# EAGLE library part SIMII80 (library con-amp)
AMP connector
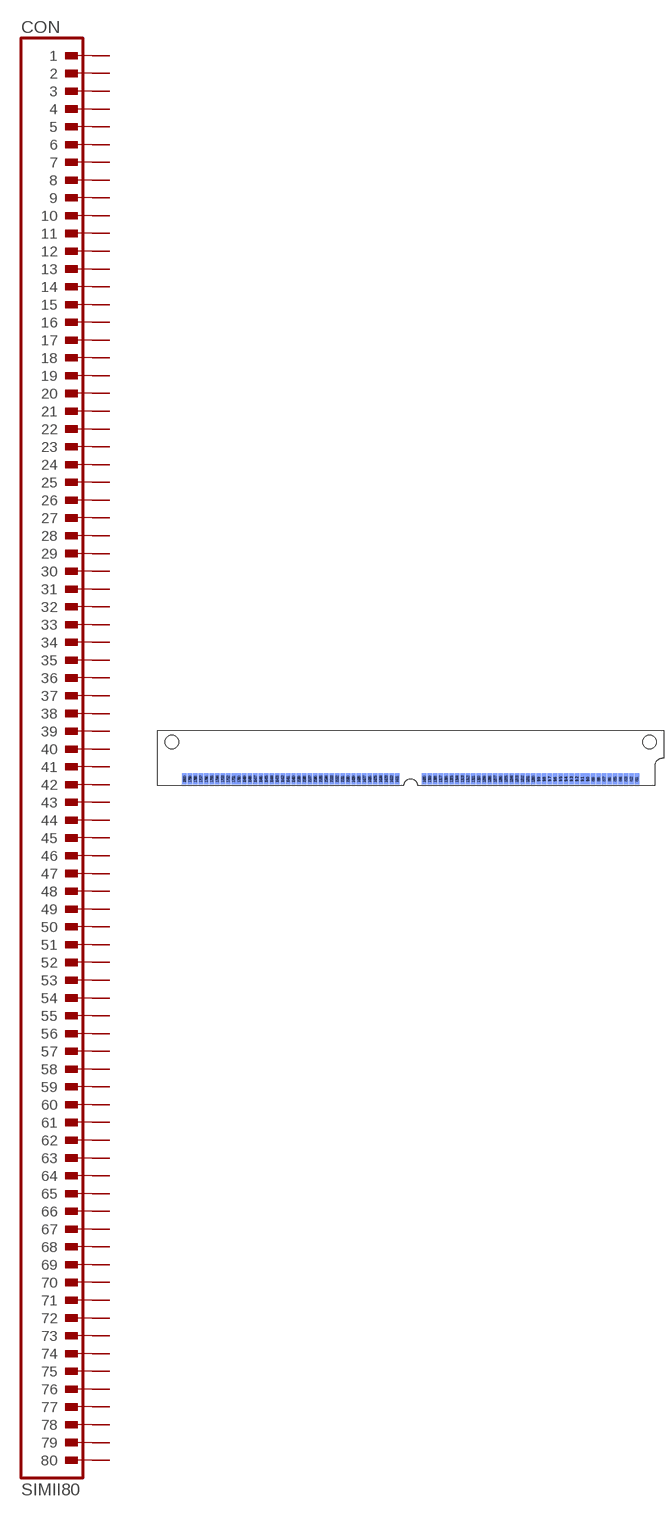
[diagram p25: symbol with the pads of SIMM80R; footprint SIMM80R]

Designator prefix CON

## SIMII80  [SIMM80R]
1  1  pas
2  2  pas
3  3  pas
4  4  pas
5  5  pas
6  6  pas
7  7  pas
8  8  pas
9  9  pas
10  10  pas
11  11  pas
12  12  pas
13  13  pas
14  14  pas
15  15  pas
16  16  pas
17  17  pas
18  18  pas
19  19  pas
20  20  pas
21  21  pas
22  22  pas
23  23  pas
24  24  pas
25  25  pas
26  26  pas
27  27  pas
28  28  pas
29  29  pas
30  30  pas
31  31  pas
32  32  pas
33  33  pas
34  34  pas
35  35  pas
36  36  pas
37  37  pas
38  38  pas
39  39  pas
40  40  pas
41  41  pas
42  42  pas
43  43  pas
44  44  pas
45  45  pas
46  46  pas
47  47  pas
48  48  pas
49  49  pas
50  50  pas
51  51  pas
52  52  pas
53  53  pas
54  54  pas
55  55  pas
56  56  pas
57  57  pas
58  58  pas
59  59  pas
60  60  pas
61  61  pas
62  62  pas
63  63  pas
64  64  pas
65  65  pas
66  66  pas
67  67  pas
68  68  pas
69  69  pas
70  70  pas
71  71  pas
72  72  pas
73  73  pas
74  74  pas
75  75  pas
76  76  pas
77  77  pas
78  78  pas
79  79  pas
80  80  pas
81  81  pas
82  82  pas
83  83  pas
84  84  pas
85  85  pas
86  86  pas
87  87  pas
88  88  pas
89  89  pas
90  90  pas
91  91  pas
92  92  pas
93  93  pas
94  94  pas
95  95  pas
96  96  pas
97  97  pas
98  98  pas
99  99  pas
100  100  pas
101  101  pas
102  102  pas
103  103  pas
104  104  pas
105  105  pas
106  106  pas
107  107  pas
108  108  pas
109  109  pas
110  110  pas
111  111  pas
112  112  pas
113  113  pas
114  114  pas
115  115  pas
116  116  pas
117  117  pas
118  118  pas
119  119  pas
120  120  pas
121  121  pas
122  122  pas
123  123  pas
124  124  pas
125  125  pas
126  126  pas
127  127  pas
128  128  pas
129  129  pas
130  130  pas
131  131  pas
132  132  pas
133  133  pas
134  134  pas
135  135  pas
136  136  pas
137  137  pas
138  138  pas
139  139  pas
140  140  pas
141  141  pas
142  142  pas
143  143  pas
144  144  pas
145  145  pas
146  146  pas
147  147  pas
148  148  pas
149  149  pas
150  150  pas
151  151  pas
152  152  pas
153  153  pas
154  154  pas
155  155  pas
156  156  pas
157  157  pas
158  158  pas
159  159  pas
160  160  pas

## Footprint SIMM80R (pad centres in mm)
SIMM II 80 Right Polarization
smd 1.041 x 2.54: 1 52.705,-8.636; 2 51.435,-8.636; 3 50.165,-8.636; 4 48.895,-8.636; 5 47.625,-8.636; 6 46.355,-8.636; 7 45.085,-8.636; 8 43.815,-8.636; 9 42.545,-8.636; 10 41.275,-8.636; 11 40.005,-8.636; 12 38.735,-8.636; 13 37.465,-8.636; 14 36.195,-8.636; 15 34.925,-8.636; 16 33.655,-8.636; 17 32.385,-8.636; 18 31.115,-8.636; 19 29.845,-8.636; 20 28.575,-8.636; 21 27.305,-8.636; 22 26.035,-8.636; 23 24.765,-8.636; 24 23.495,-8.636; 25 22.225,-8.636; 26 20.955,-8.636; 27 19.685,-8.636; 28 18.415,-8.636; 29 17.145,-8.636; 30 15.875,-8.636; 31 14.605,-8.636; 32 13.335,-8.636; 33 12.065,-8.636; 34 10.795,-8.636; 35 9.525,-8.636; 36 8.255,-8.636; 37 6.985,-8.636; 38 5.715,-8.636; 39 4.445,-8.636; 40 3.175,-8.636; 41 -3.175,-8.636; 42 -4.445,-8.636; 43 -5.715,-8.636; 44 -6.985,-8.636; 45 -8.255,-8.636; 46 -9.525,-8.636; 47 -10.795,-8.636; 48 -12.065,-8.636; 49 -13.335,-8.636; 50 -14.605,-8.636; 51 -15.875,-8.636; 52 -17.145,-8.636; 53 -18.415,-8.636; 54 -19.685,-8.636; 55 -20.955,-8.636; 56 -22.225,-8.636; 57 -23.495,-8.636; 58 -24.765,-8.636; 59 -26.035,-8.636; 60 -27.305,-8.636; 61 -28.575,-8.636; 62 -29.845,-8.636; 63 -31.115,-8.636; 64 -32.385,-8.636; 65 -33.655,-8.636; 66 -34.925,-8.636; 67 -36.195,-8.636; 68 -37.465,-8.636; 69 -38.735,-8.636; 70 -40.005,-8.636; 71 -41.275,-8.636; 72 -42.545,-8.636; 73 -43.815,-8.636; 74 -45.085,-8.636; 75 -46.355,-8.636; 76 -47.625,-8.636; 77 -48.895,-8.636; 78 -50.165,-8.636; 79 -51.435,-8.636; 80 -52.705,-8.636
smd 1.041 x 2.54 bottom: 81 52.705,-8.636; 82 51.435,-8.636; 83 50.165,-8.636; 84 48.895,-8.636; 85 47.625,-8.636; 86 46.355,-8.636; 87 45.085,-8.636; 88 43.815,-8.636; 89 42.545,-8.636; 90 41.275,-8.636; 91 40.005,-8.636; 92 38.735,-8.636; 93 37.465,-8.636; 94 36.195,-8.636; 95 34.925,-8.636; 96 33.655,-8.636; 97 32.385,-8.636; 98 31.115,-8.636; 99 29.845,-8.636; 100 28.575,-8.636; 101 27.305,-8.636; 102 26.035,-8.636; 103 24.765,-8.636; 104 23.495,-8.636; 105 22.225,-8.636; 106 20.955,-8.636; 107 19.685,-8.636; 108 18.415,-8.636; 109 17.145,-8.636; 110 15.875,-8.636; 111 14.605,-8.636; 112 13.335,-8.636; 113 12.065,-8.636; 114 10.795,-8.636; 115 9.525,-8.636; 116 8.255,-8.636; 117 6.985,-8.636; 118 5.715,-8.636; 119 4.445,-8.636; 120 3.175,-8.636; 121 -3.175,-8.636; 122 -4.445,-8.636; 123 -5.715,-8.636; 124 -6.985,-8.636; 125 -8.255,-8.636; 126 -9.525,-8.636; 127 -10.795,-8.636; 128 -12.065,-8.636; 129 -13.335,-8.636; 130 -14.605,-8.636; 131 -15.875,-8.636; 132 -17.145,-8.636; 133 -18.415,-8.636; 134 -19.685,-8.636; 135 -20.955,-8.636; 136 -22.225,-8.636; 137 -23.495,-8.636; 138 -24.765,-8.636; 139 -26.035,-8.636; 140 -27.305,-8.636; 141 -28.575,-8.636; 142 -29.845,-8.636; 143 -31.115,-8.636; 144 -32.385,-8.636; 145 -33.655,-8.636; 146 -34.925,-8.636; 147 -36.195,-8.636; 148 -37.465,-8.636; 149 -38.735,-8.636; 150 -40.005,-8.636; 151 -41.275,-8.636; 152 -42.545,-8.636; 153 -43.815,-8.636; 154 -45.085,-8.636; 155 -46.355,-8.636; 156 -47.625,-8.636; 157 -48.895,-8.636; 158 -50.165,-8.636; 159 -51.435,-8.636; 160 -52.705,-8.636
hole 3.175 at -55.677,0
hole 3.175 at 55.677,0